# Altium footprint library LibreriaComponentes.PcbLib: 38 footprints (part 3 of 3)
Each footprint in its own frame and in the unit in brackets; x right, y up, seen from the top. Pads: shape width x height; smd on the part's side, far side on the other; paste and mask are expansions set on the pad; w line width, h text height; cw(c..) or ccw(c..) is an arc to the next point about the centre after c.
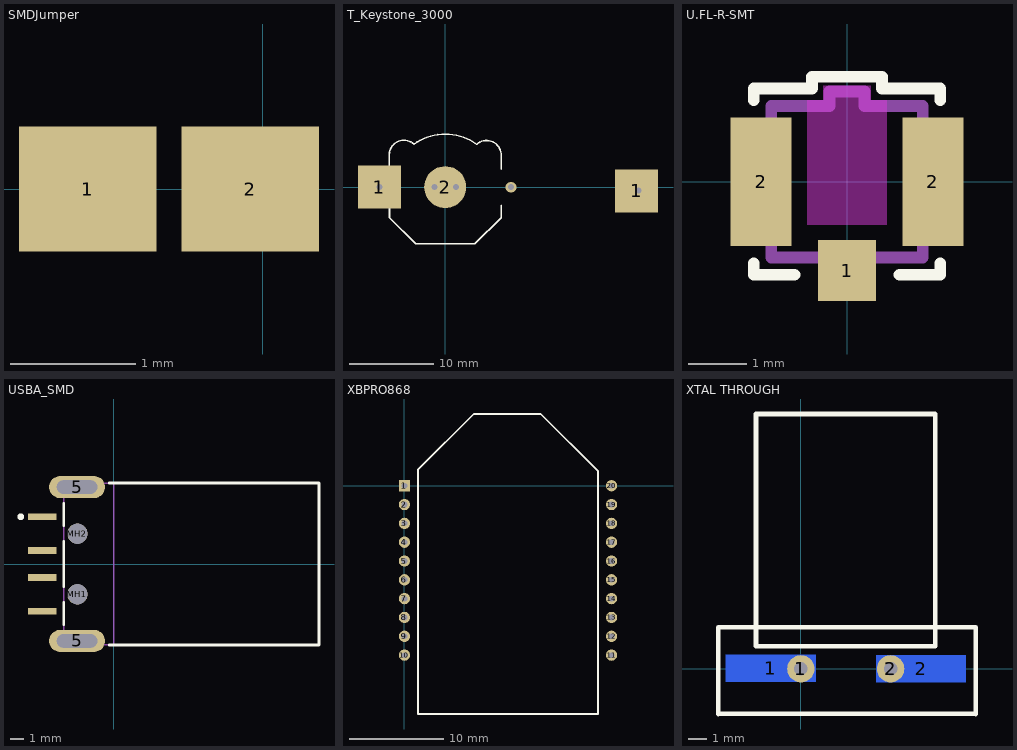
[diagram p2: the footprints below, top view; thin cyan lines are the x and y axes]

## SMDJumper [mm]
pads (2):
  rect 1.1x1 smd: 1(-1.4,0) 2(-0.1,0)

## T_Keystone_3000 [mm] "Battery Holder"
height 3.2
pads (3):
  rect 5.1x5.1 smd: 1(-7.82,0) 1(22.75,-0.45)
  round 5 smd mask+0: 2(0,0)
via 23,-0.425 diameter 1.27 hole 0.711
via -7.82,0 diameter 1.27 hole 0.711
via 7.82,0 diameter 1.27 hole 0.711
via 1.27,0 diameter 1.27 hole 0.711
via -1.27,0 diameter 1.27 hole 0.711
Top Overlay:
  lines w0.2: -6.653,2.153 -6.653,3.928 ; -6.653,3.668 cw(c-4.903,3.818) -3.718,5.115 ; -6.631,-2.152 -6.631,-3.638 -3.517,-6.752 3.523,-6.752 6.651,-3.624 6.651,-2.152 ; -3.716,5.117 cw(c0,-0.1) 3.736,5.103 ; 3.736,5.102 cw(c4.906,3.792) 6.654,3.965 6.654,2.152

## U.FL-R-SMT [mm]
pads (3):
  rect 1x1.05 smd: 1(0,-1.525)
  rect 1.05x2.2 smd: 2(-1.475,0) 2(1.475,0)
Top Layer keep-out:
  region: -0.686,-0.737 0.686,-0.737 0.686,1.397 0.406,1.397 0.406,1.651 -0.406,1.651 -0.406,1.397 -0.686,1.397
Top Overlay:
  lines w0.2: -1.6,-1.4 -1.6,-1.6 -0.9,-1.6 ; -1.6,1.4 -1.6,1.6 -0.6,1.6 -0.6,1.8 0.6,1.8 0.6,1.6 1.6,1.6 1.6,1.4 ; 0.9,-1.6 1.6,-1.6 1.6,-1.4
Mechanical 3:
  lines w0.2: -1.311,-0.9 -1.5,-0.9 -1.5,0.9 -1.311,0.9 ; -1.3,-0.9 -1.3,-1.3 -0.33,-1.3 ; -1.3,0.9 -1.3,1.3 -0.3,1.3 -0.3,1.55 0.3,1.55 0.3,1.3 1.3,1.3 1.3,0.9 ; -0.3,-1.3 -0.3,-1.55 0.3,-1.55 0.3,-1.3 ; 0.33,-1.3 1.3,-1.3 1.3,-0.9 ; 1.311,-0.9 1.5,-0.9 1.5,0.9 1.311,0.9
3D body: height 0.35, standoff 0, extent -1.5,-1.55 1.5,1.55
3D body: height 1.25, standoff 0, extent -0.992,-0.998 1,0.998

## USBA_SMD [mm]
pads (8):
  rect 2.1x0.5 smd: 1(-5.3,3.5) 2(-5.3,1) 3(-5.3,-1) 4(-5.3,-3.5)
  oval 4.15x1.65 hole 1 slot 3 at 0 deg: 5(-2.725,-5.7) 5(-2.725,5.7)
  round 1.5 hole 1.5: MH1(-2.7,-2.25) MH2(-2.7,2.25)
Top Overlay:
  circle w0.25: c-6.9,3.5 r0.125
  lines w0.2: -3.7,-4.475 -3.7,-2.83 ; -3.7,-1.68 -3.7,1.68 ; -3.7,2.83 -3.7,4.475 ; -0.33,-6 15.2,-6 15.2,6 -0.33,6
Mechanical 1:
  lines w0.1: 0,-6 0,6
  text "PCB Edge" at 0.473,-5.173 h0.25
Mechanical 13:
  lines w0.1: -3.7,-6 -3.7,6 15.2,6 15.2,-6 -3.7,-6
3D body: height 4.5, standoff 0, extent -3.7,-6 15.2,6

## XBPRO868 [mm]
pads (20):
  rect 1.2x1.2 hole 0.6: 1(0,0)
  round 1.2 hole 0.6: 2(0,-2) 3(0,-4) 4(0,-6) 5(0,-8) 6(0,-10) 7(0,-12) 8(0,-14) 9(0,-16) 10(0,-18) 11(22,-18) 12(22,-16) 13(22,-14) 14(22,-12) 15(22,-10) 16(22,-8) 17(22,-6) 18(22,-4) 19(22,-2) 20(22,0)
Top Overlay:
  lines w0.2: 1.435,-24.257 20.565,-24.257 20.565,1 20.565,1.533 14.478,7.62 7.366,7.62 1.435,1.689 1.435,-24.257

## XTAL THROUGH [mm]
pads (4):
  rect 5x1.5 smd far side: 1(-1.684,0.027) 2(6.7,0)
  round 1.524 hole 0.762: 1(0,0) 2(5,0)
Top Overlay:
  lines w0.254: -4.605,-2.517 -4.605,2.313 9.746,2.313 9.746,-2.517 ; -4.605,-2.513 9.746,-2.513 ; -2.5,1.25 -2.5,14.2 7.5,14.2 7.5,1.25 -2.5,1.25
3D body: height 2.5, standoff 0.4, extent -2.4,1.4 7.3,14.1